# Altium footprint library SBC-2410X-.PCBLIB: 37 footprints (part 1 of 3)
Each footprint in its own frame and in the unit in brackets; x right, y up, seen from the top. Pads: shape width x height; smd on the part's side, far side on the other; paste and mask are expansions set on the pad; w line width, h text height; cw(c..) or ccw(c..) is an arc to the next point about the centre after c.
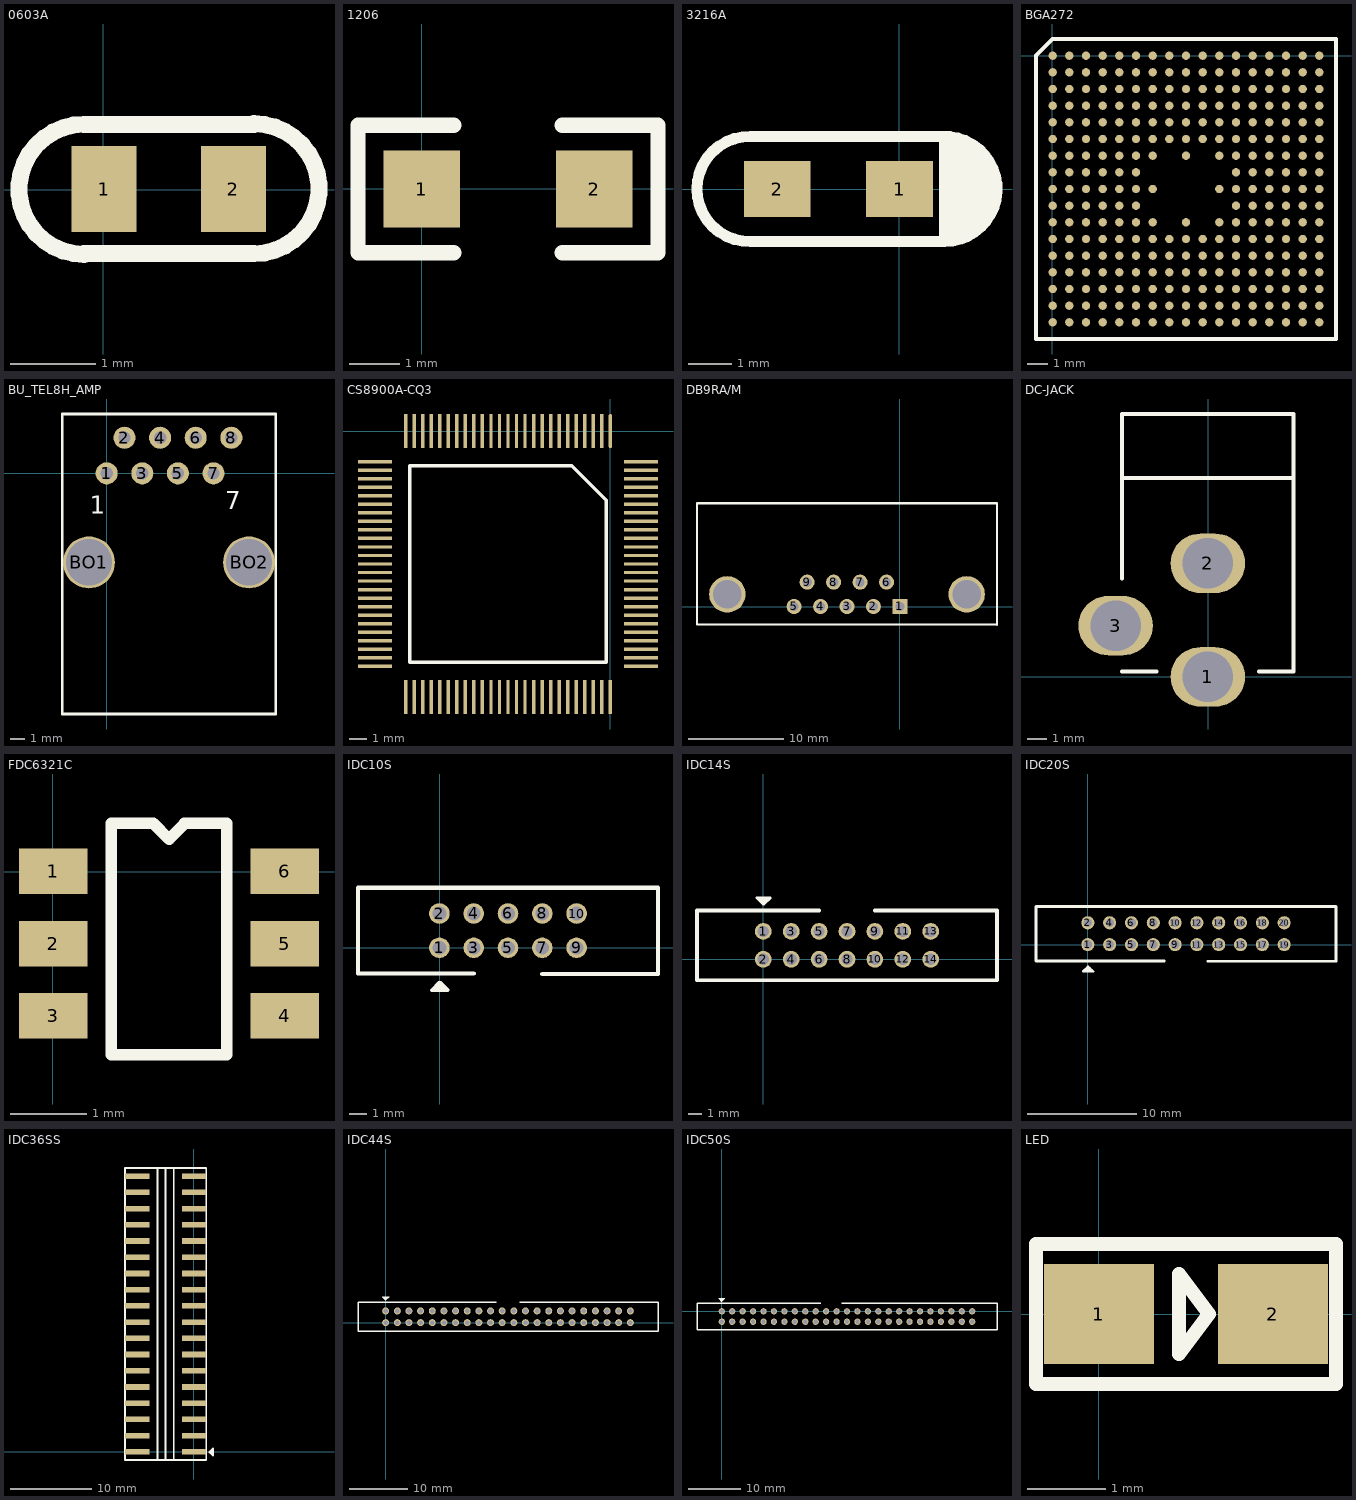
[diagram p0: the footprints below, top view; thin cyan lines are the x and y axes]

## 0603A [mil]
pads (2):
  rect 30x40 smd: 1(0.31,0.44) 2(60.31,0.44)
TopOverlay:
  lines w7.87: -8.94,-29.84 cw(c-8.94,0.3) -8.94,30.44 69.8,30.44 ; -8.94,-29.56 69.8,-29.56 ccw(c69.8,0.58) 69.8,30.72

## 1206 [mil]
pads (2):
  rect 60x60 smd: 1(-0.06,-0.16) 2(134.94,-0.16)
TopOverlay:
  lines w12: 24.94,-50.16 -50.06,-50.16 -50.06,49.84 24.94,49.84 ; 109.94,-50.16 184.94,-50.16 184.94,49.84 109.94,49.84

## 3216A [mil]
pads (2):
  rect 60x50 smd: 1(0.16,0.23) 2(-109.84,0.23)
TopOverlay:
  rectangle: 42.48,-40.13 66.1,43.54
  rectangle: 69.06,-9.61 85.79,16.96
  rectangle: 66.1,-31.27 81.85,30.74
  rectangle: 57.24,-36.19 71.02,38.61
  rectangle: 45.43,-43.08 62.17,41.57
  lines w10: -133.7,-47.02 40.51,-47.02 ; -133.71,47.47 39.53,47.47 ; -133.66,-47.01 cw(c-134.69,0.23) -133.66,47.47 ; 38.26,47.42 cw(c40.51,0.23) 40.51,-47.02 ; 40.51,45.51 40.51,-47.02

## BGA272 [mm]
pads (272):
  round 0.4 smd: A1(0.011,0.004) A2(0.811,0.004) A3(1.611,0.004) A4(2.411,0.004) A5(3.211,0.004) A6(4.011,0.004) A7(4.811,0.004) A8(5.611,0.004) A9(6.411,0.004) A10(7.211,0.004) A11(8.011,0.004) A12(8.811,0.004) A13(9.611,0.004) A14(10.411,0.004) A15(11.211,0.004) A16(12.011,0.004) A17(12.811,0.004) B1(0.011,-0.796) B2(0.811,-0.796) B3(1.611,-0.796) B4(2.411,-0.796) B5(3.211,-0.796) B6(4.011,-0.796) B7(4.811,-0.796) B8(5.611,-0.796) B9(6.411,-0.796) B10(7.211,-0.796) B11(8.011,-0.796) B12(8.811,-0.796) B13(9.611,-0.796) B14(10.411,-0.796) B15(11.211,-0.796) B16(12.011,-0.796) B17(12.811,-0.796) C1(0.011,-1.596) C2(0.811,-1.596) C3(1.611,-1.596) C4(2.411,-1.596) C5(3.211,-1.596) C6(4.011,-1.596) C7(4.811,-1.596) C8(5.611,-1.596) C9(6.411,-1.596) C10(7.211,-1.596) C11(8.011,-1.596) C12(8.811,-1.596) C13(9.611,-1.596) C14(10.411,-1.596) C15(11.211,-1.596) C16(12.011,-1.596) C17(12.811,-1.596) D1(0.011,-2.396) D2(0.811,-2.396) D3(1.611,-2.396) D4(2.411,-2.396) D5(3.211,-2.396) D6(4.011,-2.396) D7(4.811,-2.396) D8(5.611,-2.396) D9(6.411,-2.396) D10(7.211,-2.396) D11(8.011,-2.396) D12(8.811,-2.396) D13(9.611,-2.396) D14(10.411,-2.396) D15(11.211,-2.396) D16(12.011,-2.396) D17(12.811,-2.396) E1(0.011,-3.196) E2(0.811,-3.196) E3(1.611,-3.196) E4(2.411,-3.196) E5(3.211,-3.196) E6(4.011,-3.196) E7(4.811,-3.196) E8(5.611,-3.196) E9(6.411,-3.196) E10(7.211,-3.196) E11(8.011,-3.196) E12(8.811,-3.196) E13(9.611,-3.196) E14(10.411,-3.196) E15(11.211,-3.196) E16(12.011,-3.196) E17(12.811,-3.196) F1(0.011,-3.996) F2(0.811,-3.996) F3(1.611,-3.996) F4(2.411,-3.996) F5(3.211,-3.996) F6(4.011,-3.996) F7(4.811,-3.996) F8(5.611,-3.996) F9(6.411,-3.996) F10(7.211,-3.996) F11(8.011,-3.996) F12(8.811,-3.996) F13(9.611,-3.996) F14(10.411,-3.996) F15(11.211,-3.996) F16(12.011,-3.996) F17(12.811,-3.996) G1(0.011,-4.796) G2(0.811,-4.796) G3(1.611,-4.796) G4(2.411,-4.796) G5(3.211,-4.796) G6(4.011,-4.796) G7(4.811,-4.796) G9(6.411,-4.796) G11(8.011,-4.796) G12(8.811,-4.796) G13(9.611,-4.796) G14(10.411,-4.796) G15(11.211,-4.796) G16(12.011,-4.796) G17(12.811,-4.796) H1(0.011,-5.596) H2(0.811,-5.596) H3(1.611,-5.596) H4(2.411,-5.596) H5(3.211,-5.596) H6(4.011,-5.596) H12(8.811,-5.596) H13(9.611,-5.596) H14(10.411,-5.596) H15(11.211,-5.596) H16(12.011,-5.596) H17(12.811,-5.596) J1(0.011,-6.396) J2(0.811,-6.396) J3(1.611,-6.396) J4(2.411,-6.396) J5(3.211,-6.396) J6(4.011,-6.396) J7(4.811,-6.396) J11(8.011,-6.396) J12(8.811,-6.396) J13(9.611,-6.396) J14(10.411,-6.396) J15(11.211,-6.396) J16(12.011,-6.396) J17(12.811,-6.396) K1(0.011,-7.196) K2(0.811,-7.196) K3(1.611,-7.196) K4(2.411,-7.196) K5(3.211,-7.196) K6(4.011,-7.196) K12(8.811,-7.196) K13(9.611,-7.196) K14(10.411,-7.196) K15(11.211,-7.196) K16(12.011,-7.196) K17(12.811,-7.196) L1(0.011,-7.996) L2(0.811,-7.996) L3(1.611,-7.996) L4(2.411,-7.996) L5(3.211,-7.996) L6(4.011,-7.996) L7(4.811,-7.996) L9(6.411,-7.996) L11(8.011,-7.996) L12(8.811,-7.996) L13(9.611,-7.996) L14(10.411,-7.996) L15(11.211,-7.996) L16(12.011,-7.996) L17(12.811,-7.996) M1(0.011,-8.796) M2(0.811,-8.796) M3(1.611,-8.796) M4(2.411,-8.796) M5(3.211,-8.796) M6(4.011,-8.796) M7(4.811,-8.796) M8(5.611,-8.796) M9(6.411,-8.796) M10(7.211,-8.796) M11(8.011,-8.796) M12(8.811,-8.796) M13(9.611,-8.796) M14(10.411,-8.796) M15(11.211,-8.796) M16(12.011,-8.796) M17(12.811,-8.796) N1(0.011,-9.596) N2(0.811,-9.596) N3(1.611,-9.596) N4(2.411,-9.596) N5(3.211,-9.596) N6(4.011,-9.596) N7(4.811,-9.596) N8(5.611,-9.596) N9(6.411,-9.596) N10(7.211,-9.596) N11(8.011,-9.596) N12(8.811,-9.596) N13(9.611,-9.596) N14(10.411,-9.596) N15(11.211,-9.596) N16(12.011,-9.596) N17(12.811,-9.596) P1(0.011,-10.396) P2(0.811,-10.396) P3(1.611,-10.396) P4(2.411,-10.396) P5(3.211,-10.396) P6(4.011,-10.396) P7(4.811,-10.396) P8(5.611,-10.396) P9(6.411,-10.396) P10(7.211,-10.396) P11(8.011,-10.396) P12(8.811,-10.396) P13(9.611,-10.396) P14(10.411,-10.396) P15(11.211,-10.396) P16(12.011,-10.396) P17(12.811,-10.396) R1(0.011,-11.196) R2(0.811,-11.196) R3(1.611,-11.196) R4(2.411,-11.196) R5(3.211,-11.196) R6(4.011,-11.196) R7(4.811,-11.196) R8(5.611,-11.196) R9(6.411,-11.196) R10(7.211,-11.196) R11(8.011,-11.196) R12(8.811,-11.196) R13(9.611,-11.196) R14(10.411,-11.196) R15(11.211,-11.196) R16(12.011,-11.196) R17(12.811,-11.196) T1(0.011,-11.996) T2(0.811,-11.996) T3(1.611,-11.996) T4(2.411,-11.996) T5(3.211,-11.996) T6(4.011,-11.996) T7(4.811,-11.996) T8(5.611,-11.996) T9(6.411,-11.996) T10(7.211,-11.996) T11(8.011,-11.996) T12(8.811,-11.996) T13(9.611,-11.996) T14(10.411,-11.996) T15(11.211,-11.996) T16(12.011,-11.996) T17(12.811,-11.996) U1(0.011,-12.796) U2(0.811,-12.796) U3(1.611,-12.796) U4(2.411,-12.796) U5(3.211,-12.796) U6(4.011,-12.796) U7(4.811,-12.796) U8(5.611,-12.796) U9(6.411,-12.796) U10(7.211,-12.796) U11(8.011,-12.796) U12(8.811,-12.796) U13(9.611,-12.796) U14(10.411,-12.796) U15(11.211,-12.796) U16(12.011,-12.796) U17(12.811,-12.796)
TopOverlay:
  lines w0.2: -0.789,-13.596 -0.789,0.004 0.011,0.804 13.611,0.804 13.611,-13.596 -0.789,-13.596

## BU_TEL8H_AMP [mil]
pads (10):
  round 62 hole 35: 1(0.35,0.14) 2(50.35,100.14) 3(100.35,0.14) 4(150.35,100.14) 5(200.35,0.14) 6(250.35,100.14) 7(300.35,0.14) 8(350.35,100.14)
  round 145.67 hole 129.92: BO1(-49.65,-249.86) BO2(400.35,-249.86)
TopOverlay:
  lines w8: -124.65,-675.71 -124.65,166.81 475.35,166.81 475.35,-675.71 -124.65,-675.71
  text "1" at -47.49,-113.98 h50
  text "7" at 332.8,-100.92 h50

## CS8900A-CQ3 [mm]
pads (100):
  oval 0.2x2 smd: 1(0,0.004)
  rect 0.2x2 smd: 2(-0.5,0.004) 3(-1,0.004) 4(-1.5,0.004) 5(-2,0.004) 6(-2.5,0.004) 7(-3,0.004) 8(-3.5,0.004) 9(-4,0.004) 10(-4.5,0.004) 11(-5,0.004) 12(-5.5,0.004) 13(-6,0.004) 14(-6.5,0.004) 15(-7,0.004) 16(-7.5,0.004) 17(-8,0.004) 18(-8.5,0.004) 19(-9,0.004) 20(-9.5,0.004) 21(-10,0.004) 22(-10.5,0.004) 23(-11,0.004) 24(-11.5,0.004) 25(-12,0.004) 51(-12,-15.596) 52(-11.5,-15.596) 53(-11,-15.596) 54(-10.5,-15.596) 55(-10,-15.596) 56(-9.5,-15.596) 57(-9,-15.596) 58(-8.5,-15.596) 59(-8,-15.596) 60(-7.5,-15.596) 61(-7,-15.596) 62(-6.5,-15.596) 63(-6,-15.596) 64(-5.5,-15.596) 65(-5,-15.596) 66(-4.5,-15.596) 67(-4,-15.596) 68(-3.5,-15.596) 69(-3,-15.596) 70(-2.5,-15.596) 71(-2,-15.596) 72(-1.5,-15.596) 73(-1,-15.596) 74(-0.5,-15.596) 75(0,-15.596)
  rect 2x0.2 smd: 26(-13.8,-1.796) 27(-13.8,-2.296) 28(-13.8,-2.796) 29(-13.8,-3.296) 30(-13.8,-3.796) 31(-13.8,-4.296) 32(-13.8,-4.796) 33(-13.8,-5.296) 34(-13.8,-5.796) 35(-13.8,-6.296) 36(-13.8,-6.796) 37(-13.8,-7.296) 38(-13.8,-7.796) 39(-13.8,-8.296) 40(-13.8,-8.796) 41(-13.8,-9.296) 42(-13.8,-9.796) 43(-13.8,-10.296) 44(-13.8,-10.796) 45(-13.8,-11.296) 46(-13.8,-11.796) 47(-13.8,-12.296) 48(-13.8,-12.796) 49(-13.8,-13.296) 50(-13.8,-13.796) 76(1.8,-13.796) 77(1.8,-13.296) 78(1.8,-12.796) 79(1.8,-12.296) 80(1.8,-11.796) 81(1.8,-11.296) 82(1.8,-10.796) 83(1.8,-10.296) 84(1.8,-9.796) 85(1.8,-9.296) 86(1.8,-8.796) 87(1.8,-8.296) 88(1.8,-7.796) 89(1.8,-7.296) 90(1.8,-6.796) 91(1.8,-6.296) 92(1.8,-5.796) 93(1.8,-5.296) 94(1.8,-4.796) 95(1.8,-4.296) 96(1.8,-3.796) 97(1.8,-3.296) 98(1.8,-2.796) 99(1.8,-2.296) 100(1.8,-1.796)
TopOverlay:
  lines w0.2: -11.765,-13.561 -11.765,-2.031 -2.27,-2.031 -0.235,-4.066 -0.235,-13.561 -11.765,-13.561

## DB9RA/M [mil]
pads (11):
  rect 62x62 hole 38: 1(0.09,0.24)
  round 62 hole 38: 2(-108.91,0.24) 3(-217.91,0.24) 4(-326.91,0.24) 5(-435.91,0.24) 6(-54.91,100.24) 7(-163.91,100.24) 8(-272.91,100.24) 9(-381.91,100.24)
  round 150 hole 118.11: ""(-710.91,50.24) ""(275.09,50.24)
TopOverlay:
  lines w8: -835.91,425.24 -835.91,-74.76 400.09,-74.76
  lines w10: -835.91,425.24 400.09,425.24 400.09,-74.76

## DC-JACK [mil]
pads (3):
  oval 150x120 hole 102: 1(-0.4,-0.19) 2(-0.4,228.81) 3(-186.4,102.81)
TopOverlay:
  lines w8: -173.4,10.81 -103.4,10.81 ; -173.4,197.81 -173.4,529.81 172.6,529.81 172.6,10.81 102.6,10.81 ; -173.4,400.81 172.6,400.81

## FDC6321C [mm]
pads (6):
  rect 0.9x0.6 smd: 1(0.007,0.001) 2(0.007,-0.949) 3(0.007,-1.899) 4(3.055,-1.899) 5(3.055,-0.949) 6(3.055,0.001)
TopOverlay:
  lines w0.152: 1.732,0.626 1.532,0.426 1.322,0.636 0.769,0.636 0.769,-2.412 2.293,-2.412 2.293,0.636 2.283,0.626 ; 1.732,0.636 2.283,0.636

## IDC10S [mm]
pads (10):
  round 1.2 hole 0.8: 1(-0.009,0.012) 2(-0.009,2.012) 3(1.991,0.012) 4(1.991,2.012) 5(3.991,0.012) 6(3.991,2.012) 7(5.991,0.012) 8(5.991,2.012) 9(7.991,0.012) 10(7.991,2.012)
TopOverlay:
  lines w0.2: 0.303,-2.275 -0.243,-2.275 -0.257,-2.261 0.097,-2.261 0.193,-2.165 0.193,-2.236 -0.034,-2.463 -0.034,-2.038 -0.009,-2.013 ; -0.009,-2.013 -0.459,-2.463 0.291,-2.463 0.491,-2.463 0.041,-2.013 -0.009,-2.013
  lines w0.254: 1.991,-1.488 -4.759,-1.488 -4.759,3.512 12.741,3.512 12.741,-1.488 ; 5.991,-1.513 12.741,-1.513

## IDC14S [mm]
pads (14):
  round 1.2 hole 0.8: 1(0.003,1.998) 2(0.003,-0.002) 3(2.003,1.998) 4(2.003,-0.002) 5(4.003,1.998) 6(4.003,-0.002) 7(6.003,1.998) 8(6.003,-0.002) 9(8.003,1.998) 10(8.003,-0.002) 11(10.003,1.998) 12(10.003,-0.002) 13(12.003,1.998) 14(12.003,-0.002)
TopOverlay:
  lines w0.2: -0.259,4.223 0.287,4.223 0.301,4.209 -0.053,4.209 -0.149,4.113 -0.149,4.184 0.078,4.411 0.078,3.986 0.053,3.961 ; 0.053,3.961 0.503,4.411 -0.247,4.411 -0.447,4.411 0.003,3.961 0.053,3.961
  lines w0.254: 4.003,3.498 -4.747,3.498 -4.747,-1.502 16.628,-1.502 ; 8.003,3.498 16.753,3.498 16.753,-1.502

## IDC20S [mm]
pads (20):
  round 1.2 hole 0.8: 1(-0.003,-0.008) 2(-0.003,1.992) 3(1.997,-0.008) 4(1.997,1.992) 5(3.997,-0.008) 6(3.997,1.992) 7(5.997,-0.008) 8(5.997,1.992) 9(7.997,-0.008) 10(7.997,1.992) 11(9.997,-0.008) 12(9.997,1.992) 13(11.997,-0.008) 14(11.997,1.992) 15(13.997,-0.008) 16(13.997,1.992) 17(15.997,-0.008) 18(15.997,1.992) 19(17.997,-0.008) 20(17.997,1.992)
TopOverlay:
  lines w0.2: 0.308,-2.294 -0.238,-2.294 -0.252,-2.281 0.103,-2.281 0.199,-2.185 0.199,-2.256 -0.028,-2.483 -0.028,-2.058 -0.003,-2.033 ; -0.003,-2.033 -0.453,-2.483 0.297,-2.483 0.497,-2.483 0.047,-2.033 -0.003,-2.033
  lines w0.254: 6.997,-1.508 -4.753,-1.508 -4.753,3.492 22.747,3.492 22.747,-1.508 ; 10.997,-1.533 22.747,-1.533

## IDC36SS [mm]
pads (36):
  rect 3x0.7 smd: 1(0.001,0.007) 2(-6.999,0.007) 3(0.001,2.007) 4(-6.999,2.007) 5(0.001,4.007) 6(-6.999,4.007) 7(0.001,6.007) 8(-6.999,6.007) 9(0.001,8.007) 10(-6.999,8.007) 11(0.001,10.007) 12(-6.999,10.007) 13(0.001,12.007) 14(-6.999,12.007) 15(0.001,14.007) 16(-6.999,14.007) 17(0.001,16.007) 18(-6.999,16.007) 19(0.001,18.007) 20(-6.999,18.007) 21(0.001,20.007) 22(-6.999,20.007) 23(0.001,22.007) 24(-6.999,22.007) 25(0.001,24.007) 26(-6.999,24.007) 27(0.001,26.007) 28(-6.999,26.007) 29(0.001,28.007) 30(-6.999,28.007) 31(0.001,30.007) 32(-6.999,30.007) 33(0.001,32.007) 34(-6.999,32.007) 35(0.001,34.007) 36(-6.999,34.007)
TopOverlay:
  lines w0.2: -4.499,-0.968 -4.499,35.007 ; -3.499,-0.993 -3.499,35.007 ; -2.499,-0.993 -2.499,35.007 ; 2.351,0.132 2.079,0.132 2.065,0.146 2.065,0.143 2.351,-0.143 2.076,-0.143 1.926,0.007 ; 1.926,0.007 2.351,0.432 2.351,-0.493 1.926,-0.068 1.926,0.007 ; -8.499,-0.993 -8.499,35.007 1.501,35.007 1.501,-0.993 -8.499,-0.993

## IDC44S [mm]
pads (44):
  round 1.2 hole 0.8: 1(0.003,1.994) 2(0.003,-0.006) 3(2.003,1.994) 4(2.003,-0.006) 5(4.003,1.994) 6(4.003,-0.006) 7(6.003,1.994) 8(6.003,-0.006) 9(8.003,1.994) 10(8.003,-0.006) 11(10.003,1.994) 12(10.003,-0.006) 13(12.003,1.994) 14(12.003,-0.006) 15(14.003,1.994) 16(14.003,-0.006) 17(16.003,1.994) 18(16.003,-0.006) 19(18.003,1.994) 20(18.003,-0.006) 21(20.003,1.994) 22(20.003,-0.006) 23(22.003,1.994) 24(22.003,-0.006) 25(24.003,1.994) 26(24.003,-0.006) 27(26.003,1.994) 28(26.003,-0.006) 29(28.003,1.994) 30(28.003,-0.006) 31(30.003,1.994) 32(30.003,-0.006) 33(32.003,1.994) 34(32.003,-0.006) 35(34.003,1.994) 36(34.003,-0.006) 37(36.003,1.994) 38(36.003,-0.006) 39(38.003,1.994) 40(38.003,-0.006) 41(40.003,1.994) 42(40.003,-0.006) 43(42.003,1.994) 44(42.003,-0.006)
TopOverlay:
  lines w0.2: 0.144,4.185 0.144,4.153 0.003,4.294 0.003,4.068 -0.29,4.36 0.394,4.36 -0.056,3.91 ; -0.606,4.46 0.394,4.46 0.594,4.46 0.044,3.91 -0.056,3.91 ; -0.606,4.46 -0.606,4.46 ; -0.606,4.46 -0.056,3.91
  lines w0.254: 19.003,3.494 -4.747,3.494 -4.747,-1.506 46.753,-1.506 46.753,3.494 23.003,3.494

## IDC50S [mm]
pads (50):
  round 1.2 hole 0.8: 1(0.006,-0.012) 2(0.006,-2.012) 3(2.006,-0.012) 4(2.006,-2.012) 5(4.006,-0.012) 6(4.006,-2.012) 7(6.006,-0.012) 8(6.006,-2.012) 9(8.006,-0.012) 10(8.006,-2.012) 11(10.006,-0.012) 12(10.006,-2.012) 13(12.006,-0.012) 14(12.006,-2.012) 15(14.006,-0.012) 16(14.006,-2.012) 17(16.006,-0.012) 18(16.006,-2.012) 19(18.006,-0.012) 20(18.006,-2.012) 21(20.006,-0.012) 22(20.006,-2.012) 23(22.006,-0.012) 24(22.006,-2.012) 25(24.006,-0.012) 26(24.006,-2.012) 27(26.006,-0.012) 28(26.006,-2.012) 29(28.006,-0.012) 30(28.006,-2.012) 31(30.006,-0.012) 32(30.006,-2.012) 33(32.006,-0.012) 34(32.006,-2.012) 35(34.006,-0.012) 36(34.006,-2.012) 37(36.006,-0.012) 38(36.006,-2.012) 39(38.006,-0.012) 40(38.006,-2.012) 41(40.006,-0.012) 42(40.006,-2.012) 43(42.006,-0.012) 44(42.006,-2.012) 45(44.006,-0.012) 46(44.006,-2.012) 47(46.006,-0.012) 48(46.006,-2.012) 49(48.006,-0.012) 50(48.006,-2.012)
TopOverlay:
  lines w0.2: 0.147,2.179 0.147,2.146 0.006,2.288 0.006,2.061 -0.287,2.354 0.397,2.354 -0.053,1.904 ; -0.053,1.904 0.047,1.904 0.597,2.454 0.397,2.454 -0.603,2.454 -0.053,1.904
  lines w0.254: 19.006,1.488 -4.744,1.488 -4.744,-3.512 52.756,-3.512 52.756,1.488 23.006,1.488

## LED [mm]
pads (2):
  rect 1.4x1.27 smd: 1(0,0) 2(2.21,0)
TopOverlay:
  lines w0.178: 3.011,0.889 3.01,0.889 ; 3.01,0.889 -0.8,0.889 -0.8,0 -0.8,-0.889 3.01,-0.889 3.01,0.889 ; 1.016,-0.508 1.397,0 1.016,0.508 1.016,-0.508